# Altium integrated library Altium_Coil_Inductor.IntLib: 107 symbols (part 2 of 3)
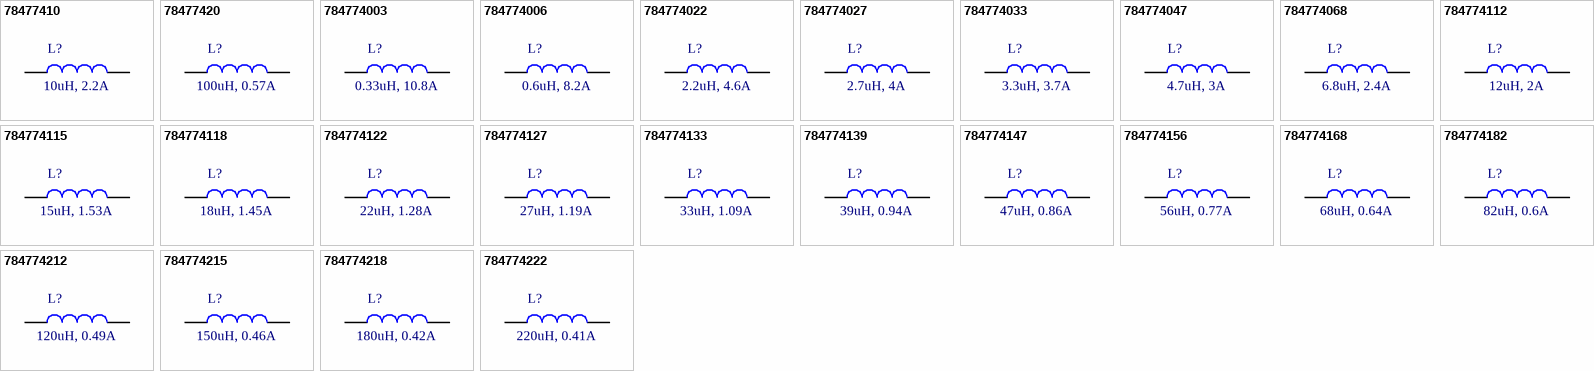
[diagram p6: symbols 78477410 to 784774222]

## 784774112
designator L?, comment 12uH, 2A
WE-PD2A SMT Power Inductor, size 5848, 12uH, 2A; Manufacturer Part Number: 784774112; Manufacturer: Wurth Elektronik; DC Resistance max.: 0.11Ohm; Saturation Current: 1.94A; Self Resonant Frequency: 24MHz; DC Resistance typ.: 0.082Ohm; Rated Voltage: 80VDC; ComponentLink1Description: Datasheet; ComponentLink1URL: https://www.we-online.com/catalog/datasheet/784774156.pdf; Published Date: May 2020; Rated Current: 2A; Inductance: 12uH; Operating Temperature: -40 to +125degC; Packaging: Tape and Reel; Size: 5848; Supplier 2 URL: https://www.digikey.com/en/products/detail/w%C3%BCrth-elektronik/784774112/5168866?s=N4IgTCBcDaIOwA4Asc5IIzogXQL5A; Supplier 1 URL: https://www.mouser.vn/ProductDetail/Wurth-Elektronik/784774112?qs=sBf%2Fb4nBSlcatMhetvXIaQ%3D%3D; Supplier 3 URL: N/A; Value: 12uH, 2A; LCSC Part #: N/A; Mount: SMD/SMT; Supplier 1: Mouser; Supplier 1 Part Number: 710-784774112; Supplier 2: Digi-Key; Supplier 2 Part Number: 732-6831-2-ND; Supplier 3: thegioiic; Supplier 3 Part Number: N/A
footprint WE-PD2A_5848
pins: 1, 2

## 784774115
designator L?, comment 15uH, 1.53A
WE-PD2A SMT Power Inductor, size 5848, 15uH, 1.53A; Manufacturer Part Number: 784774115; Manufacturer: Wurth Elektronik; DC Resistance max.: 0.14Ohm; Saturation Current: 1.9A; Self Resonant Frequency: 20MHz; DC Resistance typ.: 0.089Ohm; Rated Voltage: 80VDC; ComponentLink1Description: Datasheet; ComponentLink1URL: https://www.we-online.com/catalog/datasheet/784774156.pdf; Published Date: May 2020; Rated Current: 1.53A; Inductance: 15uH; Operating Temperature: -40 to +125degC; Packaging: Tape and Reel; Size: 5848; Supplier 2 URL: https://www.digikey.com/en/products/detail/w%C3%BCrth-elektronik/784774115/5168867?s=N4IgTCBcDaIOwA4Asc5IIzoKwgLoF8g; Supplier 1 URL: https://www.mouser.vn/ProductDetail/Wurth-Elektronik/784774115?qs=sBf%2Fb4nBSleoo7TtqR8SIg%3D%3D; Supplier 3 URL: https://www.thegioiic.com/cuon-cam-dan-smd-cd53-5852-150-15uh-1-7a; Value: 15uH, 1.53A; LCSC Part #: N/A; Mount: SMD/SMT; Supplier 1: Mouser; Supplier 1 Part Number: 710-784774115; Supplier 2: Digi-Key; Supplier 2 Part Number: 732-6832-2-ND; Supplier 3: thegioiic; Supplier 3 Part Number: N/A
footprint WE-PD2A_5848
pins: 1, 2

## 784774118
designator L?, comment 18uH, 1.45A
WE-PD2A SMT Power Inductor, size 5848, 18uH, 1.45A; Manufacturer Part Number: 784774118; Manufacturer: Wurth Elektronik; DC Resistance max.: 0.15Ohm; Saturation Current: 1.69A; Self Resonant Frequency: 19MHz; DC Resistance typ.: 0.104Ohm; Rated Voltage: 80VDC; ComponentLink1Description: Datasheet; ComponentLink1URL: https://www.we-online.com/catalog/datasheet/784774156.pdf; Published Date: May 2020; Rated Current: 1.45A; Inductance: 18uH; Operating Temperature: -40 to +125degC; Packaging: Tape and Reel; Size: 5848; Supplier 2 URL: https://www.digikey.com/en/products/detail/w%C3%BCrth-elektronik/784774118/5168868?s=N4IgTCBcDaIOwA4Asc5IIzoSAugXyA; Supplier 1 URL: https://www.mouser.vn/ProductDetail/Wurth-Elektronik/784774118?qs=sBf%2Fb4nBSldyi82E%2Fy0cEQ%3D%3D; Supplier 3 URL: https://www.thegioiic.com/cuon-cam-dan-smd-cd53-5852-180-18uh-1-6a; Value: 18uH, 1.45A; LCSC Part #: N/A; Mount: SMD/SMT; Supplier 1: Mouser; Supplier 1 Part Number: 710-784774118; Supplier 2: Digi-Key; Supplier 2 Part Number: 732-6833-2-ND; Supplier 3: thegioiic; Supplier 3 Part Number: N/A
footprint WE-PD2A_5848
pins: 1, 2

## 784774122
designator L?, comment 22uH, 1.28A
WE-PD2A SMT Power Inductor, size 5848, 22uH, 1.28A; Manufacturer Part Number: 784774122; Manufacturer: Wurth Elektronik; DC Resistance max.: 0.18Ohm; Saturation Current: 1.53A; Self Resonant Frequency: 16MHz; DC Resistance typ.: 0.109Ohm; Rated Voltage: 80VDC; ComponentLink1Description: Datasheet; ComponentLink1URL: https://www.we-online.com/catalog/datasheet/784774156.pdf; Published Date: May 2020; Rated Current: 1.28A; Inductance: 22uH; Operating Temperature: -40 to +125degC; Packaging: Tape and Reel; Size: 5848; Supplier 2 URL: https://www.digikey.com/en/products/detail/w%C3%BCrth-elektronik/784774122/5168869?s=N4IgTCBcDaIOwA4Asc5IIxggXQL5A; Supplier 1 URL: https://www.mouser.vn/ProductDetail/Wurth-Elektronik/784774122?qs=sBf%2Fb4nBSlfVM2OiWUTSBg%3D%3D; Supplier 3 URL: https://www.thegioiic.com/cuon-cam-dan-smd-cd53-5852-220-22uh-1-5a; Value: 22uH, 1.28A; LCSC Part #: N/A; Mount: SMD/SMT; Supplier 1: Mouser; Supplier 1 Part Number: 710-784774122; Supplier 2: Digi-Key; Supplier 2 Part Number: 732-6834-2-ND; Supplier 3: thegioiic; Supplier 3 Part Number: N/A
footprint WE-PD2A_5848
pins: 1, 2

## 784774127
designator L?, comment 27uH, 1.19A
WE-PD2A SMT Power Inductor, size 5848, 27uH, 1.19A; Manufacturer Part Number: 784774127; Manufacturer: Wurth Elektronik; DC Resistance max.: 0.2Ohm; Saturation Current: 1.4A; Self Resonant Frequency: 15MHz; DC Resistance typ.: 0.133Ohm; Rated Voltage: 80VDC; ComponentLink1Description: Datasheet; ComponentLink1URL: https://www.we-online.com/catalog/datasheet/784774156.pdf; Published Date: May 2020; Rated Current: 1.19A; Inductance: 27uH; Operating Temperature: -40 to +125degC; Packaging: Tape and Reel; Size: 5848; Supplier 2 URL: https://www.digikey.com/en/products/detail/w%C3%BCrth-elektronik/784774127/5168870?s=N4IgTCBcDaIOwA4Asc5IIxjiAugXyA; Supplier 1 URL: https://www.mouser.vn/ProductDetail/Wurth-Elektronik/784774127?qs=sBf%2Fb4nBSldrlnc5m4le1w%3D%3D; Supplier 3 URL: https://www.thegioiic.com/cuon-cam-dan-smd-cd53-5852-270-27uh-1-4a; Value: 27uH, 1.19A; LCSC Part #: N/A; Mount: SMD/SMT; Supplier 1: Mouser; Supplier 1 Part Number: 710-784774127; Supplier 2: Digi-Key; Supplier 2 Part Number: 732-6835-2-ND; Supplier 3: thegioiic; Supplier 3 Part Number: N/A
footprint WE-PD2A_5848
pins: 1, 2

## 784774133
designator L?, comment 33uH, 1.09A
WE-PD2A SMT Power Inductor, size 5848, 33uH, 1.09A; Manufacturer Part Number: 784774133; Manufacturer: Wurth Elektronik; DC Resistance max.: 0.23Ohm; Saturation Current: 1.17A; Self Resonant Frequency: 14MHz; DC Resistance typ.: 0.15Ohm; Rated Voltage: 80VDC; ComponentLink1Description: Datasheet; ComponentLink1URL: https://www.we-online.com/catalog/datasheet/784774156.pdf; Published Date: May 2020; Rated Current: 1.09A; Inductance: 33uH; Operating Temperature: -40 to +125degC; Packaging: Tape and Reel; Size: 5848; Supplier 2 URL: https://www.digikey.com/en/products/detail/w%C3%BCrth-elektronik/784774133/5168871?s=N4IgTCBcDaIOwA4Asc5IIwGZMgLoF8g; Supplier 1 URL: https://www.mouser.vn/ProductDetail/Wurth-Elektronik/784774133?qs=sBf%2Fb4nBSlcKSvlJ1UQYww%3D%3D; Supplier 3 URL: https://www.thegioiic.com/cuon-cam-dan-smd-cd53-5852-330-33uh-1-1a; Value: 33uH, 1.09A; LCSC Part #: N/A; Mount: SMD/SMT; Supplier 1: Mouser; Supplier 1 Part Number: 710-784774133; Supplier 2: Digi-Key; Supplier 2 Part Number: 732-6836-2-ND; Supplier 3: thegioiic; Supplier 3 Part Number: N/A
footprint WE-PD2A_5848
pins: 1, 2

## 784774139
designator L?, comment 39uH, 0.94A
WE-PD2A SMT Power Inductor, size 5848, 39uH, 0.94A; Manufacturer Part Number: 784774139; Manufacturer: Wurth Elektronik; DC Resistance max.: 0.32Ohm; Saturation Current: 1.1A; Self Resonant Frequency: 12MHz; DC Resistance typ.: 0.215Ohm; Rated Voltage: 80VDC; ComponentLink1Description: Datasheet; ComponentLink1URL: https://www.we-online.com/catalog/datasheet/784774156.pdf; Published Date: May 2020; Rated Current: 0.94A; Inductance: 39uH; Operating Temperature: -40 to +125degC; Packaging: Tape and Reel; Size: 5848; Supplier 2 URL: https://www.digikey.com/en/products/detail/w%C3%BCrth-elektronik/784774139/5168872?s=N4IgTCBcDaIOwA4Asc5IIwGYCcIC6AvkA; Supplier 1 URL: https://www.mouser.vn/ProductDetail/Wurth-Elektronik/784774139?qs=sBf%2Fb4nBSlf29NmVSXGfqA%3D%3D; Supplier 3 URL: https://www.thegioiic.com/cuon-cam-dan-smd-cd53-5852-390-39uh-1a; Value: 39uH, 0.94A; LCSC Part #: N/A; Mount: SMD/SMT; Supplier 1: Mouser; Supplier 1 Part Number: 710-784774139; Supplier 2: Digi-Key; Supplier 2 Part Number: 732-6837-2-ND; Supplier 3: thegioiic; Supplier 3 Part Number: N/A
footprint WE-PD2A_5848
pins: 1, 2

## 784774147
designator L?, comment 47uH, 0.86A
WE-PD2A SMT Power Inductor, size 5848, 47uH, 0.86A; Manufacturer Part Number: 784774147; Manufacturer: Wurth Elektronik; DC Resistance max.: 0.37Ohm; Saturation Current: 1A; Self Resonant Frequency: 10MHz; DC Resistance typ.: 0.26Ohm; Rated Voltage: 80VDC; ComponentLink1Description: Datasheet; ComponentLink1URL: https://www.we-online.com/catalog/datasheet/784774156.pdf; Published Date: May 2020; Rated Current: 0.86A; Inductance: 47uH; Operating Temperature: -40 to +125degC; Packaging: Tape and Reel; Size: 5848; Supplier 2 URL: https://www.digikey.com/en/products/detail/w%C3%BCrth-elektronik/784774147/5168873?s=N4IgTCBcDaIOwA4Asc5IIwpAXQL5A; Supplier 1 URL: https://www.mouser.vn/ProductDetail/Wurth-Elektronik/784774147?qs=sBf%2Fb4nBSlctzbnKAYzY9w%3D%3D; Supplier 3 URL: N/A; Value: 47uH, 0.86A; LCSC Part #: N/A; Mount: SMD/SMT; Supplier 1: Mouser; Supplier 1 Part Number: 710-784774147; Supplier 2: Digi-Key; Supplier 2 Part Number: 732-6838-2-ND; Supplier 3: thegioiic; Supplier 3 Part Number: N/A
footprint WE-PD2A_5848
pins: 1, 2

## 784774156
designator L?, comment 56uH, 0.77A
WE-PD2A SMT Power Inductor, size 5848, 56uH, 0.77A; Manufacturer Part Number: 784774156; Manufacturer: Wurth Elektronik; DC Resistance max.: 0.42Ohm; Saturation Current: 0.9A; Self Resonant Frequency: 10MHz; DC Resistance typ.: 0.298Ohm; Rated Voltage: 80VDC; ComponentLink1Description: Datasheet; ComponentLink1URL: https://www.we-online.com/catalog/datasheet/784774156.pdf; Published Date: May 2020; Rated Current: 0.77A; Inductance: 56uH; Operating Temperature: -40 to +125degC; Packaging: Tape and Reel; Size: 5848; Supplier 2 URL: https://www.digikey.com/en/products/detail/w%C3%BCrth-elektronik/784774156/5168874?s=N4IgTCBcDaIOwA4Asc5IIwFYBsIC6AvkA; Supplier 1 URL: https://www.mouser.vn/ProductDetail/Wurth-Elektronik/784774156?qs=sBf%2Fb4nBSlc%2FUe5VBOi2yA%3D%3D; Supplier 3 URL: N/A; Value: 56uH, 0.77A; LCSC Part #: N/A; Mount: SMD/SMT; Supplier 1: Mouser; Supplier 1 Part Number: 710-784774156; Supplier 2: Digi-Key; Supplier 2 Part Number: 732-6839-2-ND; Supplier 3: thegioiic; Supplier 3 Part Number: N/A
footprint WE-PD2A_5848
pins: 1, 2

## 784774168
designator L?, comment 68uH, 0.64A
WE-PD2A SMT Power Inductor, size 5848, 68uH, 0.64A; Manufacturer Part Number: 784774168; Manufacturer: Wurth Elektronik; DC Resistance max.: 0.46Ohm; Saturation Current: 0.86A; Self Resonant Frequency: 10MHz; DC Resistance typ.: 0.313Ohm; Rated Voltage: 80VDC; ComponentLink1Description: Datasheet; ComponentLink1URL: https://www.we-online.com/catalog/datasheet/784774156.pdf; Published Date: May 2020; Rated Current: 0.64A; Inductance: 68uH; Operating Temperature: -40 to +125degC; Packaging: Tape and Reel; Size: 5848; Supplier 2 URL: https://www.digikey.com/en/products/detail/w%C3%BCrth-elektronik/784774168/5168875?s=N4IgTCBcDaIOwA4Asc5IIwDYEgLoF8g; Supplier 1 URL: https://www.mouser.vn/ProductDetail/Wurth-Elektronik/784774168?qs=sBf%2Fb4nBSld9uN%2F8XgaVFw%3D%3D; Supplier 3 URL: N/A; Value: 68uH, 0.64A; LCSC Part #: N/A; Mount: SMD/SMT; Supplier 1: Mouser; Supplier 1 Part Number: 710-784774168; Supplier 2: Digi-Key; Supplier 2 Part Number: 732-6840-2-ND; Supplier 3: thegioiic; Supplier 3 Part Number: N/A
footprint WE-PD2A_5848
pins: 1, 2

## 784774182
designator L?, comment 82uH, 0.6A
WE-PD2A SMT Power Inductor, size 5848, 82uH, 0.6A; Manufacturer Part Number: 784774182; Manufacturer: Wurth Elektronik; DC Resistance max.: 0.6Ohm; Saturation Current: 0.72A; Self Resonant Frequency: 8MHz; DC Resistance typ.: 0.475Ohm; Rated Voltage: 80VDC; ComponentLink1Description: Datasheet; ComponentLink1URL: https://www.we-online.com/catalog/datasheet/784774156.pdf; Published Date: May 2020; Rated Current: 0.6A; Inductance: 82uH; Operating Temperature: -40 to +125degC; Packaging: Tape and Reel; Size: 5848; Supplier 2 URL: https://www.digikey.com/en/products/detail/w%C3%BCrth-elektronik/784774182/5168876?s=N4IgTCBcDaIOwA4Asc5IIwIgXQL5A; Supplier 1 URL: https://www.mouser.vn/ProductDetail/Wurth-Elektronik/784774182?qs=sBf%2Fb4nBSlcez0lEaidETg%3D%3D; Supplier 3 URL: N/A; Value: 82uH, 0.6A; LCSC Part #: N/A; Mount: SMD/SMT; Supplier 1: Mouser; Supplier 1 Part Number: 710-784774182; Supplier 2: Digi-Key; Supplier 2 Part Number: 732-6841-2-ND; Supplier 3: thegioiic; Supplier 3 Part Number: N/A
footprint WE-PD2A_5848
pins: 1, 2

## 784774212
designator L?, comment 120uH, 0.49A
WE-PD2A SMT Power Inductor, size 5848, 120uH, 0.49A; Manufacturer Part Number: 784774212; Manufacturer: Wurth Elektronik; DC Resistance max.: 0.93Ohm; Saturation Current: 0.63A; Self Resonant Frequency: 7MHz; DC Resistance typ.: 0.66Ohm; Rated Voltage: 80VDC; ComponentLink1Description: Datasheet; ComponentLink1URL: https://www.we-online.com/catalog/datasheet/784774156.pdf; Published Date: May 2020; Rated Current: 0.49A; Inductance: 120uH; Operating Temperature: -40 to +125degC; Packaging: Tape and Reel; Size: 5848; Supplier 2 URL: https://www.digikey.com/en/products/detail/w%C3%BCrth-elektronik/784774212/5168877?s=N4IgTCBcDaIOwA4Asc5LARggXQL5A; Supplier 1 URL: https://www.mouser.vn/ProductDetail/Wurth-Elektronik/784774212?qs=sBf%2Fb4nBSlf8mVbHwLAxxA%3D%3D; Supplier 3 URL: N/A; Value: 120uH, 0.49A; LCSC Part #: N/A; Mount: SMD/SMT; Supplier 1: Mouser; Supplier 1 Part Number: 710-784774212; Supplier 2: Digi-Key; Supplier 2 Part Number: 732-6843-2-ND; Supplier 3: thegioiic; Supplier 3 Part Number: N/A
footprint WE-PD2A_5848
pins: 1, 2

## 784774215
designator L?, comment 150uH, 0.46A
WE-PD2A SMT Power Inductor, size 5848, 150uH, 0.46A; Manufacturer Part Number: 784774215; Manufacturer: Wurth Elektronik; DC Resistance max.: 1.1Ohm; Saturation Current: 0.54A; Self Resonant Frequency: 6MHz; DC Resistance typ.: 0.72Ohm; Rated Voltage: 80VDC; ComponentLink1Description: Datasheet; ComponentLink1URL: https://www.we-online.com/catalog/datasheet/784774156.pdf; Published Date: May 2020; Rated Current: 0.46A; Inductance: 150uH; Operating Temperature: -40 to +125degC; Packaging: Tape and Reel; Size: 5848; Supplier 2 URL: https://www.digikey.com/en/products/detail/w%C3%BCrth-elektronik/784774215/5168878?s=N4IgTCBcDaIOwA4Asc5LARgKwgLoF8g; Supplier 1 URL: https://www.mouser.vn/ProductDetail/Wurth-Elektronik/784774215?qs=sBf%2Fb4nBSldOI6iEaAoXhQ%3D%3D; Supplier 3 URL: N/A; Value: 150uH, 0.46A; LCSC Part #: N/A; Mount: SMD/SMT; Supplier 1: Mouser; Supplier 1 Part Number: 710-784774215; Supplier 2: Digi-Key; Supplier 2 Part Number: 732-6844-2-ND; Supplier 3: thegioiic; Supplier 3 Part Number: N/A
footprint WE-PD2A_5848
pins: 1, 2

## 784774218
designator L?, comment 180uH, 0.42A
WE-PD2A SMT Power Inductor, size 5848, 180uH, 0.42A; Manufacturer Part Number: 784774218; Manufacturer: Wurth Elektronik; DC Resistance max.: 1.38Ohm; Saturation Current: 0.5A; Self Resonant Frequency: 6MHz; DC Resistance typ.: 0.85Ohm; Rated Voltage: 80VDC; ComponentLink1Description: Datasheet; ComponentLink1URL: https://www.we-online.com/catalog/datasheet/784774156.pdf; Published Date: May 2020; Rated Current: 0.42A; Inductance: 180uH; Operating Temperature: -40 to +125degC; Packaging: Tape and Reel; Size: 5848; Supplier 2 URL: https://www.digikey.com/en/products/detail/w%C3%BCrth-elektronik/784774218/5168879?s=N4IgTCBcDaIOwA4Asc5LARgSAugXyA; Supplier 1 URL: https://www.mouser.vn/ProductDetail/Wurth-Elektronik/784774218?qs=sBf%2Fb4nBSle8%2F%2Fncjy8uHQ%3D%3D; Supplier 3 URL: N/A; Value: 180uH, 0.42A; LCSC Part #: N/A; Mount: SMD/SMT; Supplier 1: Mouser; Supplier 1 Part Number: 710-784774218; Supplier 2: Digi-Key; Supplier 2 Part Number: 732-6845-2-ND; Supplier 3: thegioiic; Supplier 3 Part Number: N/A
footprint WE-PD2A_5848
pins: 1, 2

## 784774222
designator L?, comment 220uH, 0.41A
WE-PD2A SMT Power Inductor, size 5848, 220uH, 0.41A; Manufacturer Part Number: 784774222; Manufacturer: Wurth Elektronik; DC Resistance max.: 1.57Ohm; Saturation Current: 0.47A; Self Resonant Frequency: 5MHz; DC Resistance typ.: 0.945Ohm; Rated Voltage: 80VDC; ComponentLink1Description: Datasheet; ComponentLink1URL: https://www.we-online.com/catalog/datasheet/784774156.pdf; Published Date: May 2020; Rated Current: 0.41A; Inductance: 220uH; Operating Temperature: -40 to +125degC; Packaging: Tape and Reel; Size: 5848; Supplier 2 URL: https://www.digikey.com/en/products/detail/w%C3%BCrth-elektronik/784774222/5168880?s=N4IgTCBcDaIOwA4Asc5LBkBdAvkA; Supplier 1 URL: https://www.mouser.vn/ProductDetail/Wurth-Elektronik/784774222?qs=sBf%2Fb4nBSlf2yvEr8fQTJA%3D%3D; Supplier 3 URL: N/A; Value: 220uH, 0.41A; LCSC Part #: N/A; Mount: SMD/SMT; Supplier 1: Mouser; Supplier 1 Part Number: 710-784774222; Supplier 2: Digi-Key; Supplier 2 Part Number: 732-6846-2-ND; Supplier 3: thegioiic; Supplier 3 Part Number: N/A
footprint WE-PD2A_5848
pins: 1, 2


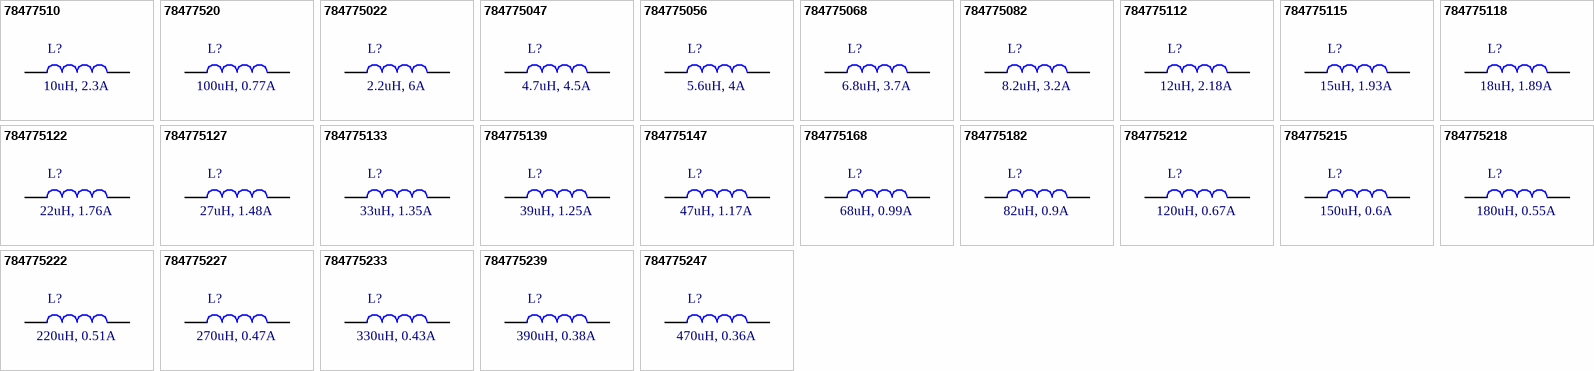
[diagram p3: symbols 78477510 to 784775247]

## 78477510
designator L?, comment 10uH, 2.3A
WE-PD2A SMT Power Inductor, size 7850, 10uH, 2.3A; Manufacturer Part Number: 78477510; Manufacturer: Wurth Elektronik; DC Resistance max.: 0.07Ohm; Saturation Current: 2.95A; Self Resonant Frequency: 23MHz; DC Resistance typ.: 0.04Ohm; Rated Voltage: 80VDC; ComponentLink1Description: Datasheet; ComponentLink1URL: https://www.we-online.com/catalog/datasheet/78477510.pdf; Published Date: May 2020; Rated Current: 2.3A; Inductance: 10uH; Operating Temperature: -40 to +125degC; Packaging: Tape and Reel; Size: 7850; Supplier 2 URL: https://www.digikey.com/en/products/detail/w%C3%BCrth-elektronik/78477510/5168781?s=N4IgTCBcDaIOwA4Asc4FYCMAGEBdAvkA; Supplier 1 SN: 710-78477510; Supplier 1 URL: https://www.mouser.vn/ProductDetail/Wurth-Elektronik/78477510?qs=sBf%2Fb4nBSlc%252BwaRN6TiqcA%3D%3D; Supplier 1 URL: N/A; Value: 10uH, 2.3A; Supplier 3 URL: N/A; LCSC Part #: N/A; Mount: SMD/SMT; Supplier 1: Mouser; Supplier 1 Part Number: N/A; Supplier 2: Digi-Key; Supplier 2 Part Number: 732-6854-2-ND; Supplier 3: thegioiic; Supplier 3 Part Number: N/A
footprint WE-PD2A_7850
pins: 1, 2

## 78477520
designator L?, comment 100uH, 0.77A
WE-PD2A SMT Power Inductor, size 7850, 100uH, 0.77A; Manufacturer Part Number: 78477520; Manufacturer: Wurth Elektronik; DC Resistance max.: 0.43Ohm; Saturation Current: 0.86A; Self Resonant Frequency: 7MHz; DC Resistance typ.: 0.281Ohm; Rated Voltage: 80VDC; ComponentLink1Description: Datasheet; ComponentLink1URL: https://www.we-online.com/catalog/datasheet/78477520.pdf; Published Date: May 2020; Rated Current: 0.77A; Inductance: 100uH; Operating Temperature: -40 to +125degC; Packaging: Tape and Reel; Size: 7850; Supplier 2 URL: https://www.digikey.com/en/products/detail/w%C3%BCrth-elektronik/78477520/5168782?s=N4IgTCBcDaIOwA4Asc4FYwAYQF0C%2BQA; Supplier 1 SN: 710-78477520; Supplier 1 URL: https://www.mouser.vn/ProductDetail/Wurth-Elektronik/78477520?qs=sBf%2Fb4nBSletLVOXzG8NgA%3D%3D; Supplier 1 URL: N/A; Value: 100uH, 0.77A; Supplier 3 URL: N/A; LCSC Part #: N/A; Mount: SMD/SMT; Supplier 1: Mouser; Supplier 1 Part Number: N/A; Supplier 2: Digi-Key; Supplier 2 Part Number: 732-6865-2-ND; Supplier 3: thegioiic; Supplier 3 Part Number: N/A
footprint WE-PD2A_7850
pins: 1, 2

## 784775022
designator L?, comment 2.2uH, 6A
WE-PD2A SMT Power Inductor, size 7850, 2.2uH, 6A; Manufacturer Part Number: 784775022; Manufacturer: Wurth Elektronik; DC Resistance max.: 0.015Ohm; Self Resonant Frequency: 70MHz; DC Resistance typ.: 0.008Ohm; Rated Voltage: 80VDC; ComponentLink1Description: Datasheet; ComponentLink1URL: https://www.we-online.com/catalog/datasheet/784775022.pdf; Published Date: May 2020; Rated Current: 6A; Inductance: 2.2uH; Operating Temperature: -40 to +125degC; Packaging: Tape and Reel; Saturation Current: 6A; Size: 7850; Supplier 2 URL: https://www.digikey.com/en/products/detail/w%C3%BCrth-elektronik/784775022/5168882?s=N4IgTCBcDaIOwA4Asc4FYAMYIF0C%2BQA; Supplier 1 SN: 710-784775022; Supplier 1 URL: https://www.mouser.vn/ProductDetail/Wurth-Elektronik/784775022?qs=sBf%2Fb4nBSldWwdb%252BPXLbsg%3D%3D; Supplier 1 URL: N/A; Value: 2.2uH, 6A; Supplier 3 URL: N/A; LCSC Part #: N/A; Mount: SMD/SMT; Supplier 1: Mouser; Supplier 1 Part Number: N/A; Supplier 2: Digi-Key; Supplier 2 Part Number: 732-6848-2-ND; Supplier 3: thegioiic; Supplier 3 Part Number: N/A
footprint WE-PD2A_7850
pins: 1, 2

## 784775047
designator L?, comment 4.7uH, 4.5A
WE-PD2A SMT Power Inductor, size 7850, 4.7uH, 4.5A; Manufacturer Part Number: 784775047; Manufacturer: Wurth Elektronik; DC Resistance max.: 0.019Ohm; Self Resonant Frequency: 47MHz; DC Resistance typ.: 0.016Ohm; Rated Voltage: 80VDC; ComponentLink1Description: Datasheet; ComponentLink1URL: https://www.we-online.com/catalog/datasheet/784775047.pdf; Published Date: May 2020; Rated Current: 4.5A; Inductance: 4.7uH; Operating Temperature: -40 to +125degC; Packaging: Tape and Reel; Saturation Current: 4.5A; Size: 7850; Supplier 2 URL: https://www.digikey.com/en/products/detail/w%C3%BCrth-elektronik/784775047/5168884?s=N4IgTCBcDaIOwA4Asc4FYAMKQF0C%2BQA; Supplier 1 SN: 710-784775047; Supplier 1 URL: https://www.mouser.vn/ProductDetail/Wurth-Elektronik/784775047?qs=sBf%2Fb4nBSlf4xHj%2Fl3swig%3D%3D; Supplier 1 URL: https://www.thegioiic.com/cuon-cam-dan-smd-cd75-7855-4r7-4-7uh-2-9a; Value: 4.7uH, 4.5A; Supplier 3 URL: N/A; LCSC Part #: N/A; Mount: SMD/SMT; Supplier 1: Mouser; Supplier 1 Part Number: N/A; Supplier 2: Digi-Key; Supplier 2 Part Number: 732-6850-2-ND; Supplier 3: thegioiic; Supplier 3 Part Number: N/A
footprint WE-PD2A_7850
pins: 1, 2

## 784775056
designator L?, comment 5.6uH, 4A
WE-PD2A SMT Power Inductor, size 7850, 5.6uH, 4A; Manufacturer Part Number: 784775056; Manufacturer: Wurth Elektronik; DC Resistance max.: 0.022Ohm; Self Resonant Frequency: 34MHz; DC Resistance typ.: 0.018Ohm; Rated Voltage: 80VDC; ComponentLink1Description: Datasheet; ComponentLink1URL: https://www.we-online.com/catalog/datasheet/784775056.pdf; Published Date: May 2020; Rated Current: 4A; Inductance: 5.6uH; Operating Temperature: -40 to +125degC; Packaging: Tape and Reel; Saturation Current: 4A; Size: 7850; Supplier 2 URL: https://www.digikey.com/en/products/detail/w%C3%BCrth-elektronik/784775056/5168885?s=N4IgTCBcDaIOwA4Asc4FYAMaBsIC6AvkA; Supplier 1 SN: 710-784775056; Supplier 1 URL: https://www.mouser.vn/ProductDetail/Wurth-Elektronik/784775056?qs=sBf%2Fb4nBSlcjhWMBFsnY9w%3D%3D; Supplier 1 URL: N/A; Value: 5.6uH, 4A; Supplier 3 URL: N/A; LCSC Part #: N/A; Mount: SMD/SMT; Supplier 1: Mouser; Supplier 1 Part Number: N/A; Supplier 2: Digi-Key; Supplier 2 Part Number: 732-6851-2-ND; Supplier 3: thegioiic; Supplier 3 Part Number: N/A
footprint WE-PD2A_7850
pins: 1, 2

## 784775068
designator L?, comment 6.8uH, 3.7A
WE-PD2A SMT Power Inductor, size 7850, 6.8uH, 3.7A; Manufacturer Part Number: 784775068; Manufacturer: Wurth Elektronik; DC Resistance max.: 0.026Ohm; Saturation Current: 3.8A; Self Resonant Frequency: 30MHz; DC Resistance typ.: 0.022Ohm; Rated Voltage: 80VDC; ComponentLink1Description: Datasheet; ComponentLink1URL: https://www.we-online.com/catalog/datasheet/784775068.pdf; Published Date: May 2020; Rated Current: 3.7A; Inductance: 6.8uH; Operating Temperature: -40 to +125degC; Packaging: Tape and Reel; Size: 7850; Supplier 2 URL: https://www.digikey.com/en/products/detail/w%C3%BCrth-elektronik/784775068/5168886?s=N4IgTCBcDaIOwA4Asc4FYAMA2BIC6AvkA; Supplier 1 SN: 710-784775068; Supplier 1 URL: https://www.mouser.vn/ProductDetail/Wurth-Elektronik/784775068?qs=sBf%2Fb4nBSlf8S8PaXh%252BpXg%3D%3D; Supplier 1 URL: https://www.thegioiic.com/cuon-cam-dan-smd-cd75-7855-6r8-6-8uh-2-7a; Value: 6.8uH, 3.7A; Supplier 3 URL: N/A; LCSC Part #: N/A; Mount: SMD/SMT; Supplier 1: Mouser; Supplier 1 Part Number: N/A; Supplier 2: Digi-Key; Supplier 2 Part Number: 732-6852-2-ND; Supplier 3: thegioiic; Supplier 3 Part Number: N/A
footprint WE-PD2A_7850
pins: 1, 2

## 784775082
designator L?, comment 8.2uH, 3.2A
WE-PD2A SMT Power Inductor, size 7850, 8.2uH, 3.2A; Manufacturer Part Number: 784775082; Manufacturer: Wurth Elektronik; DC Resistance max.: 0.029Ohm; Self Resonant Frequency: 33MHz; DC Resistance typ.: 0.024Ohm; Rated Voltage: 80VDC; ComponentLink1Description: Datasheet; ComponentLink1URL: https://www.we-online.com/catalog/datasheet/784775082.pdf; Published Date: May 2020; Rated Current: 3.2A; Inductance: 8.2uH; Operating Temperature: -40 to +125degC; Packaging: Tape and Reel; Saturation Current: 3.2A; Size: 7850; Supplier 2 URL: https://www.digikey.com/en/products/detail/w%C3%BCrth-elektronik/784775082/5168887?s=N4IgTCBcDaIOwA4Asc4FYAMCIF0C%2BQA; Supplier 1 SN: 710-784775082; Supplier 1 URL: https://www.mouser.vn/ProductDetail/Wurth-Elektronik/784775082?qs=sBf%2Fb4nBSlcWo3KIPfi%252BzQ%3D%3D; Supplier 1 URL: N/A; Value: 8.2uH, 3.2A; Supplier 3 URL: N/A; LCSC Part #: N/A; Mount: SMD/SMT; Supplier 1: Mouser; Supplier 1 Part Number: N/A; Supplier 2: Digi-Key; Supplier 2 Part Number: 732-6853-2-ND; Supplier 3: thegioiic; Supplier 3 Part Number: N/A
footprint WE-PD2A_7850
pins: 1, 2

## 784775112
designator L?, comment 12uH, 2.18A
WE-PD2A SMT Power Inductor, size 7850, 12uH, 2.18A; Manufacturer Part Number: 784775112; Manufacturer: Wurth Elektronik; DC Resistance max.: 0.08Ohm; Saturation Current: 2.23A; Self Resonant Frequency: 20MHz; DC Resistance typ.: 0.042Ohm; Rated Voltage: 80VDC; ComponentLink1Description: Datasheet; ComponentLink1URL: https://www.we-online.com/catalog/datasheet/784775112.pdf; Published Date: May 2020; Rated Current: 2.18A; Inductance: 12uH; Operating Temperature: -40 to +125degC; Packaging: Tape and Reel; Size: 7850; Supplier 2 URL: https://www.digikey.com/en/products/detail/w%C3%BCrth-elektronik/784775112/5168888?s=N4IgTCBcDaIOwA4Asc4FYCMGIF0C%2BQA; Supplier 1 SN: 710-784775112; Supplier 1 URL: https://www.mouser.vn/ProductDetail/Wurth-Elektronik/784775112?qs=sBf%2Fb4nBSldbAuNzI%252BywLA%3D%3D; Supplier 1 URL: https://www.thegioiic.com/cuon-cam-dan-smd-cd75-7855-120-12uh-2a; Value: 12uH, 2.18A; Supplier 3 URL: N/A; LCSC Part #: N/A; Mount: SMD/SMT; Supplier 1: Mouser; Supplier 1 Part Number: N/A; Supplier 2: Digi-Key; Supplier 2 Part Number: 732-6855-2-ND; Supplier 3: thegioiic; Supplier 3 Part Number: N/A
footprint WE-PD2A_7850
pins: 1, 2

## 784775115
designator L?, comment 15uH, 1.93A
WE-PD2A SMT Power Inductor, size 7850, 15uH, 1.93A; Manufacturer Part Number: 784775115; Manufacturer: Wurth Elektronik; DC Resistance max.: 0.09Ohm; Saturation Current: 2.2A; Self Resonant Frequency: 18MHz; DC Resistance typ.: 0.044Ohm; Rated Voltage: 80VDC; ComponentLink1Description: Datasheet; ComponentLink1URL: https://www.we-online.com/catalog/datasheet/784775115.pdf; Published Date: May 2020; Rated Current: 1.93A; Inductance: 15uH; Operating Temperature: -40 to +125degC; Packaging: Tape and Reel; Size: 7850; Supplier 2 URL: https://www.digikey.com/en/products/detail/w%C3%BCrth-elektronik/784775115/5168889?s=N4IgTCBcDaIOwA4Asc4FYCMG0gLoF8g; Supplier 1 SN: 710-784775115; Supplier 1 URL: https://www.mouser.vn/ProductDetail/Wurth-Elektronik/784775115?qs=sBf%2Fb4nBSldPqUomNOej8Q%3D%3D; Supplier 1 URL: https://www.thegioiic.com/cuon-cam-dan-smd-cd75-7855-150-15uh-1-8a; Value: 15uH, 1.93A; Supplier 3 URL: N/A; LCSC Part #: N/A; Mount: SMD/SMT; Supplier 1: Mouser; Supplier 1 Part Number: N/A; Supplier 2: Digi-Key; Supplier 2 Part Number: 732-6856-2-ND; Supplier 3: thegioiic; Supplier 3 Part Number: N/A
footprint WE-PD2A_7850
pins: 1, 2

## 784775118
designator L?, comment 18uH, 1.89A
WE-PD2A SMT Power Inductor, size 7850, 18uH, 1.89A; Manufacturer Part Number: 784775118; Manufacturer: Wurth Elektronik; DC Resistance max.: 0.1Ohm; Saturation Current: 2.14A; Self Resonant Frequency: 17MHz; DC Resistance typ.: 0.053Ohm; Rated Voltage: 80VDC; ComponentLink1Description: Datasheet; ComponentLink1URL: https://www.we-online.com/catalog/datasheet/784775118.pdf; Published Date: May 2020; Rated Current: 1.89A; Inductance: 18uH; Operating Temperature: -40 to +125degC; Packaging: Tape and Reel; Size: 7850; Supplier 2 URL: https://www.digikey.com/en/products/detail/w%C3%BCrth-elektronik/784775118/5168890?s=N4IgTCBcDaIOwA4Asc4FYCMGEgLoF8g; Supplier 1 SN: 710-784775118; Supplier 1 URL: https://www.mouser.vn/ProductDetail/Wurth-Elektronik/784775118?qs=sBf%2Fb4nBSlcwZpsf1SQYRw%3D%3D; Supplier 1 URL: https://www.thegioiic.com/cuon-cam-dan-smd-cd75-7855-180-18uh-1-6a; Value: 18uH, 1.89A; Supplier 3 URL: N/A; LCSC Part #: N/A; Mount: SMD/SMT; Supplier 1: Mouser; Supplier 1 Part Number: N/A; Supplier 2: Digi-Key; Supplier 2 Part Number: 732-6857-2-ND; Supplier 3: thegioiic; Supplier 3 Part Number: N/A
footprint WE-PD2A_7850
pins: 1, 2

## 784775122
designator L?, comment 22uH, 1.76A
WE-PD2A SMT Power Inductor, size 7850, 22uH, 1.76A; Manufacturer Part Number: 784775122; Manufacturer: Wurth Elektronik; DC Resistance max.: 0.11Ohm; Saturation Current: 1.81A; Self Resonant Frequency: 15MHz; DC Resistance typ.: 0.065Ohm; Rated Voltage: 80VDC; ComponentLink1Description: Datasheet; ComponentLink1URL: https://www.we-online.com/catalog/datasheet/784775122.pdf; Published Date: May 2020; Rated Current: 1.76A; Inductance: 22uH; Operating Temperature: -40 to +125degC; Packaging: Tape and Reel; Size: 7850; Supplier 2 URL: https://www.digikey.com/en/products/detail/w%C3%BCrth-elektronik/784775122/5168891?s=N4IgTCBcDaIOwA4Asc4FYCMYIF0C%2BQA; Supplier 1 SN: 710-784775122; Supplier 1 URL: https://www.mouser.vn/ProductDetail/Wurth-Elektronik/784775122?qs=sBf%2Fb4nBSlfpr06WXnbQQg%3D%3D; Supplier 1 URL: https://www.thegioiic.com/cuon-cam-dan-smd-cd75-7855-180-18uh-1-6a; Value: 22uH, 1.76A; Supplier 3 URL: N/A; LCSC Part #: N/A; Mount: SMD/SMT; Supplier 1: Mouser; Supplier 1 Part Number: N/A; Supplier 2: Digi-Key; Supplier 2 Part Number: 732-6858-2-ND; Supplier 3: thegioiic; Supplier 3 Part Number: N/A
footprint WE-PD2A_7850 (SMD Power Inductor, body 7.8x7mm)
pins: 1, 2

## 784775127
designator L?, comment 27uH, 1.48A
WE-PD2A SMT Power Inductor, size 7850, 27uH, 1.48A; Manufacturer Part Number: 784775127; Manufacturer: Wurth Elektronik; DC Resistance max.: 0.12Ohm; Saturation Current: 1.62A; Self Resonant Frequency: 14MHz; DC Resistance typ.: 0.074Ohm; Rated Voltage: 80VDC; ComponentLink1Description: Datasheet; ComponentLink1URL: https://www.we-online.com/catalog/datasheet/784775127.pdf; Published Date: May 2020; Rated Current: 1.48A; Inductance: 27uH; Operating Temperature: -40 to +125degC; Packaging: Tape and Reel; Size: 7850; Supplier 2 URL: https://www.digikey.com/en/products/detail/w%C3%BCrth-elektronik/784775127/5168892?s=N4IgTCBcDaIOwA4Asc4FYCMY4gLoF8g; Supplier 1 SN: 710-784775127; Supplier 1 URL: https://www.mouser.vn/ProductDetail/Wurth-Elektronik/784775127?qs=sBf%2Fb4nBSldmITeO904MeA%3D%3D; Supplier 1 URL: https://www.thegioiic.com/cuon-cam-dan-smd-cd75-7855-270-27uh-1-3a; Value: 27uH, 1.48A; Supplier 3 URL: N/A; LCSC Part #: N/A; Mount: SMD/SMT; Supplier 1: Mouser; Supplier 1 Part Number: N/A; Supplier 2: Digi-Key; Supplier 2 Part Number: 732-6859-2-ND; Supplier 3: thegioiic; Supplier 3 Part Number: N/A
footprint WE-PD2A_7850
pins: 1, 2

## 784775133
designator L?, comment 33uH, 1.35A
WE-PD2A SMT Power Inductor, size 7850, 33uH, 1.35A; Manufacturer Part Number: 784775133; Manufacturer: Wurth Elektronik; DC Resistance max.: 0.13Ohm; Saturation Current: 1.47A; Self Resonant Frequency: 13MHz; DC Resistance typ.: 0.089Ohm; Rated Voltage: 80VDC; ComponentLink1Description: Datasheet; ComponentLink1URL: https://www.we-online.com/catalog/datasheet/784775133.pdf; Published Date: May 2020; Rated Current: 1.35A; Inductance: 33uH; Operating Temperature: -40 to +125degC; Packaging: Tape and Reel; Size: 7850; Supplier 2 URL: https://www.digikey.com/en/products/detail/w%C3%BCrth-elektronik/784775133/5168893?s=N4IgTCBcDaIOwA4Asc4FYCMBmLIC6AvkA; Supplier 1 SN: 710-784775133; Supplier 1 URL: https://www.mouser.vn/ProductDetail/Wurth-Elektronik/784775133?qs=sBf%2Fb4nBSldo7oeQ7NWZEA%3D%3D; Supplier 1 URL: https://www.thegioiic.com/cuon-cam-dan-smd-cd75-7855-330-33uh-1-2a; Value: 33uH, 1.35A; Supplier 3 URL: N/A; LCSC Part #: N/A; Mount: SMD/SMT; Supplier 1: Mouser; Supplier 1 Part Number: N/A; Supplier 2: Digi-Key; Supplier 2 Part Number: 732-6860-2-ND; Supplier 3: thegioiic; Supplier 3 Part Number: N/A
footprint WE-PD2A_7850
pins: 1, 2

## 784775139
designator L?, comment 39uH, 1.25A
WE-PD2A SMT Power Inductor, size 7850, 39uH, 1.25A; Manufacturer Part Number: 784775139; Manufacturer: Wurth Elektronik; DC Resistance max.: 0.16Ohm; Saturation Current: 1.33A; Self Resonant Frequency: 12MHz; DC Resistance typ.: 0.116Ohm; Rated Voltage: 80VDC; ComponentLink1Description: Datasheet; ComponentLink1URL: https://www.we-online.com/catalog/datasheet/784775139.pdf; Published Date: May 2020; Rated Current: 1.25A; Inductance: 39uH; Operating Temperature: -40 to +125degC; Packaging: Tape and Reel; Size: 7850; Supplier 2 URL: https://www.digikey.com/en/products/detail/w%C3%BCrth-elektronik/784775139/5168894?s=N4IgTCBcDaIOwA4Asc4FYCMBmAnCAugL5A; Supplier 1 SN: 710-784775139; Supplier 1 URL: https://www.mouser.vn/ProductDetail/Wurth-Elektronik/784775139?qs=sBf%2Fb4nBSldL%252BOUk7cGBpA%3D%3D; Supplier 1 URL: https://www.thegioiic.com/cuon-cam-dan-smd-cd75-7855-390-39uh-1-1a; Value: 39uH, 1.25A; Supplier 3 URL: N/A; LCSC Part #: N/A; Mount: SMD/SMT; Supplier 1: Mouser; Supplier 1 Part Number: N/A; Supplier 2: Digi-Key; Supplier 2 Part Number: 732-6861-2-ND; Supplier 3: thegioiic; Supplier 3 Part Number: N/A
footprint WE-PD2A_7850
pins: 1, 2

## 784775147
designator L?, comment 47uH, 1.17A
WE-PD2A SMT Power Inductor, size 7850, 47uH, 1.17A; Manufacturer Part Number: 784775147; Manufacturer: Wurth Elektronik; DC Resistance max.: 0.18Ohm; Saturation Current: 1.24A; Self Resonant Frequency: 10MHz; DC Resistance typ.: 0.134Ohm; Rated Voltage: 80VDC; ComponentLink1Description: Datasheet; ComponentLink1URL: https://www.we-online.com/catalog/datasheet/784775147.pdf; Published Date: May 2020; Rated Current: 1.17A; Inductance: 47uH; Operating Temperature: -40 to +125degC; Packaging: Tape and Reel; Size: 7850; Supplier 2 URL: https://www.digikey.com/en/products/detail/w%C3%BCrth-elektronik/784775147/5168895?s=N4IgTCBcDaIOwA4Asc4FYCMKQF0C%2BQA; Supplier 1 SN: 710-784775147; Supplier 1 URL: https://www.mouser.vn/ProductDetail/Wurth-Elektronik/784775147?qs=sBf%2Fb4nBSlcZGSZD%252BTIL6w%3D%3D; Supplier 1 URL: https://www.thegioiic.com/cuon-cam-dan-smd-cd75-7855-470-47uh-1-1a; Value: 47uH, 1.17A; Supplier 3 URL: N/A; LCSC Part #: N/A; Mount: SMD/SMT; Supplier 1: Mouser; Supplier 1 Part Number: N/A; Supplier 2: Digi-Key; Supplier 2 Part Number: 732-6862-2-ND; Supplier 3: thegioiic; Supplier 3 Part Number: N/A
footprint WE-PD2A_7850
pins: 1, 2

## 784775168
designator L?, comment 68uH, 0.99A
WE-PD2A SMT Power Inductor, size 7850, 68uH, 0.99A; Manufacturer Part Number: 784775168; Manufacturer: Wurth Elektronik; DC Resistance max.: 0.28Ohm; Saturation Current: 1.05A; Self Resonant Frequency: 8MHz; DC Resistance typ.: 0.218Ohm; Rated Voltage: 80VDC; ComponentLink1Description: Datasheet; ComponentLink1URL: https://www.we-online.com/catalog/datasheet/784775168.pdf; Published Date: May 2020; Rated Current: 0.99A; Inductance: 68uH; Operating Temperature: -40 to +125degC; Packaging: Tape and Reel; Size: 7850; Supplier 2 URL: https://www.digikey.com/en/products/detail/w%C3%BCrth-elektronik/784775168/5168896?s=N4IgTCBcDaIOwA4Asc4FYCMA2BIC6AvkA; Supplier 1 SN: 710-784775168; Supplier 1 URL: https://www.mouser.vn/ProductDetail/Wurth-Elektronik/784775168?qs=sBf%2Fb4nBSlc6P06%252BtuCpAA%3D%3D; Supplier 1 URL: N/A; Value: 68uH, 0.99A; Supplier 3 URL: N/A; LCSC Part #: N/A; Mount: SMD/SMT; Supplier 1: Mouser; Supplier 1 Part Number: N/A; Supplier 2: Digi-Key; Supplier 2 Part Number: 732-6863-2-ND; Supplier 3: thegioiic; Supplier 3 Part Number: N/A
footprint WE-PD2A_7850
pins: 1, 2

## 784775182
designator L?, comment 82uH, 0.9A
WE-PD2A SMT Power Inductor, size 7850, 82uH, 0.9A; Manufacturer Part Number: 784775182; Manufacturer: Wurth Elektronik; DC Resistance max.: 0.37Ohm; Saturation Current: 0.95A; Self Resonant Frequency: 7MHz; DC Resistance typ.: 0.248Ohm; Rated Voltage: 80VDC; ComponentLink1Description: Datasheet; ComponentLink1URL: https://www.we-online.com/catalog/datasheet/784775182.pdf; Published Date: May 2020; Rated Current: 0.9A; Inductance: 82uH; Operating Temperature: -40 to +125degC; Packaging: Tape and Reel; Size: 7850; Supplier 2 URL: https://www.digikey.com/en/products/detail/w%C3%BCrth-elektronik/784775182/5168897?s=N4IgTCBcDaIOwA4Asc4FYCMCIF0C%2BQA; Supplier 1 SN: 710-784775182; Supplier 1 URL: https://www.mouser.vn/ProductDetail/Wurth-Elektronik/784775182?qs=sBf%2Fb4nBSlffzb9B1%2FjFLw%3D%3D; Supplier 1 URL: N/A; Value: 82uH, 0.9A; Supplier 3 URL: N/A; LCSC Part #: N/A; Mount: SMD/SMT; Supplier 1: Mouser; Supplier 1 Part Number: N/A; Supplier 2: Digi-Key; Supplier 2 Part Number: 732-6864-2-ND; Supplier 3: thegioiic; Supplier 3 Part Number: N/A
footprint WE-PD2A_7850
pins: 1, 2

## 784775212
designator L?, comment 120uH, 0.67A
WE-PD2A SMT Power Inductor, size 7850, 120uH, 0.67A; Manufacturer Part Number: 784775212; Manufacturer: Wurth Elektronik; DC Resistance max.: 0.47Ohm; Saturation Current: 0.81A; Self Resonant Frequency: 6MHz; DC Resistance typ.: 0.34Ohm; Rated Voltage: 80VDC; ComponentLink1Description: Datasheet; ComponentLink1URL: https://www.we-online.com/catalog/datasheet/784775212.pdf; Published Date: May 2020; Rated Current: 0.67A; Inductance: 120uH; Operating Temperature: -40 to +125degC; Packaging: Tape and Reel; Size: 7850; Supplier 2 URL: https://www.digikey.com/en/products/detail/w%C3%BCrth-elektronik/784775212/5168898?s=N4IgTCBcDaIOwA4Asc4FYwEYIF0C%2BQA; Supplier 1 SN: 710-784775212; Supplier 1 URL: https://www.mouser.vn/ProductDetail/Wurth-Elektronik/784775212?qs=sBf%2Fb4nBSleOeqHA39e6vQ%3D%3D; Supplier 1 URL: N/A; Value: 120uH, 0.67A; Supplier 3 URL: N/A; LCSC Part #: N/A; Mount: SMD/SMT; Supplier 1: Mouser; Supplier 1 Part Number: N/A; Supplier 2: Digi-Key; Supplier 2 Part Number: 732-6866-2-ND; Supplier 3: thegioiic; Supplier 3 Part Number: N/A
footprint WE-PD2A_7850
pins: 1, 2

## 784775215
designator L?, comment 150uH, 0.6A
WE-PD2A SMT Power Inductor, size 7850, 150uH, 0.6A; Manufacturer Part Number: 784775215; Manufacturer: Wurth Elektronik; DC Resistance max.: 0.64Ohm; Saturation Current: 0.71A; Self Resonant Frequency: 6MHz; DC Resistance typ.: 0.467Ohm; Rated Voltage: 80VDC; ComponentLink1Description: Datasheet; ComponentLink1URL: https://www.we-online.com/catalog/datasheet/784775215.pdf; Published Date: May 2020; Rated Current: 0.6A; Inductance: 150uH; Operating Temperature: -40 to +125degC; Packaging: Tape and Reel; Size: 7850; Supplier 2 URL: https://www.digikey.com/en/products/detail/w%C3%BCrth-elektronik/784775215/5168899?s=N4IgTCBcDaIOwA4Asc4FYwEY0gLoF8g; Supplier 1 SN: 710-784775215; Supplier 1 URL: https://www.mouser.vn/ProductDetail/Wurth-Elektronik/784775215?qs=sBf%2Fb4nBSlcuYaaomBKw3w%3D%3D; Supplier 1 URL: N/A; Value: 150uH, 0.6A; Supplier 3 URL: N/A; LCSC Part #: N/A; Mount: SMD/SMT; Supplier 1: Mouser; Supplier 1 Part Number: N/A; Supplier 2: Digi-Key; Supplier 2 Part Number: 732-6867-2-ND; Supplier 3: thegioiic; Supplier 3 Part Number: N/A
footprint WE-PD2A_7850
pins: 1, 2

## 784775218
designator L?, comment 180uH, 0.55A
WE-PD2A SMT Power Inductor, size 7850, 180uH, 0.55A; Manufacturer Part Number: 784775218; Manufacturer: Wurth Elektronik; DC Resistance max.: 0.71Ohm; Saturation Current: 0.57A; Self Resonant Frequency: 5MHz; DC Resistance typ.: 0.574Ohm; Rated Voltage: 80VDC; ComponentLink1Description: Datasheet; ComponentLink1URL: https://www.we-online.com/catalog/datasheet/784775218.pdf; Published Date: May 2020; Rated Current: 0.55A; Inductance: 180uH; Operating Temperature: -40 to +125degC; Packaging: Tape and Reel; Size: 7850; Supplier 2 URL: https://www.digikey.com/en/products/detail/w%C3%BCrth-elektronik/784775218/5168900?s=N4IgTCBcDaIOwA4Asc4FYwEYEgLoF8g; Supplier 1 SN: 710-784775218; Supplier 1 URL: https://www.mouser.vn/ProductDetail/Wurth-Elektronik/784775218?qs=sBf%2Fb4nBSldi5VOBQ9TGkw%3D%3D; Supplier 1 URL: N/A; Value: 180uH, 0.55A; Supplier 3 URL: N/A; LCSC Part #: N/A; Mount: SMD/SMT; Supplier 1: Mouser; Supplier 1 Part Number: N/A; Supplier 2: Digi-Key; Supplier 2 Part Number: 732-6868-2-ND; Supplier 3: thegioiic; Supplier 3 Part Number: N/A
footprint WE-PD2A_7850
pins: 1, 2

## 784775222
designator L?, comment 220uH, 0.51A
WE-PD2A SMT Power Inductor, size 7850, 220uH, 0.51A; Manufacturer Part Number: 784775222; Manufacturer: Wurth Elektronik; DC Resistance max.: 0.96Ohm; Saturation Current: 0.56A; Self Resonant Frequency: 5MHz; DC Resistance typ.: 0.614Ohm; Rated Voltage: 80VDC; ComponentLink1Description: Datasheet; ComponentLink1URL: https://www.we-online.com/catalog/datasheet/784775222.pdf; Published Date: May 2020; Rated Current: 0.51A; Inductance: 220uH; Operating Temperature: -40 to +125degC; Packaging: Tape and Reel; Size: 7850; Supplier 2 URL: https://www.digikey.com/en/products/detail/w%C3%BCrth-elektronik/784775222/5168901?s=N4IgTCBcDaIOwA4Asc4FYyZAXQL5A; Supplier 1 SN: 710-784775222; Supplier 1 URL: https://www.mouser.vn/ProductDetail/Wurth-Elektronik/784775222?qs=sBf%2Fb4nBSldPd7mA4Qj5Cw%3D%3D; Supplier 1 URL: N/A; Value: 220uH, 0.51A; Supplier 3 URL: N/A; LCSC Part #: N/A; Mount: SMD/SMT; Supplier 1: Mouser; Supplier 1 Part Number: N/A; Supplier 2: Digi-Key; Supplier 2 Part Number: 732-6869-2-ND; Supplier 3: thegioiic; Supplier 3 Part Number: N/A
footprint WE-PD2A_7850
pins: 1, 2

## 784775227
designator L?, comment 270uH, 0.47A
WE-PD2A SMT Power Inductor, size 7850, 270uH, 0.47A; Manufacturer Part Number: 784775227; Manufacturer: Wurth Elektronik; DC Resistance max.: 1.11Ohm; Saturation Current: 0.51A; Self Resonant Frequency: 4MHz; DC Resistance typ.: 0.699Ohm; Rated Voltage: 80VDC; ComponentLink1Description: Datasheet; ComponentLink1URL: https://www.we-online.com/catalog/datasheet/784775227.pdf; Published Date: May 2020; Rated Current: 0.47A; Inductance: 270uH; Operating Temperature: -40 to +125degC; Packaging: Tape and Reel; Size: 7850; Supplier 2 URL: https://www.digikey.com/en/products/detail/w%C3%BCrth-elektronik/784775227/5168902?s=N4IgTCBcDaIOwA4Asc4FYxjiAugXyA; Supplier 1 SN: 710-784775227; Supplier 1 URL: https://www.mouser.vn/ProductDetail/Wurth-Elektronik/784775227?qs=sBf%2Fb4nBSle2cmx9sjCMtw%3D%3D; Supplier 1 URL: N/A; Value: 270uH, 0.47A; Supplier 3 URL: N/A; LCSC Part #: N/A; Mount: SMD/SMT; Supplier 1: Mouser; Supplier 1 Part Number: N/A; Supplier 2: Digi-Key; Supplier 2 Part Number: 732-6870-2-ND; Supplier 3: thegioiic; Supplier 3 Part Number: N/A
footprint WE-PD2A_7850
pins: 1, 2

## 784775233
designator L?, comment 330uH, 0.43A
WE-PD2A SMT Power Inductor, size 7850, 330uH, 0.43A; Manufacturer Part Number: 784775233; Manufacturer: Wurth Elektronik; DC Resistance max.: 1.26Ohm; Saturation Current: 0.48A; Self Resonant Frequency: 4MHz; DC Resistance typ.: 0.98Ohm; Rated Voltage: 80VDC; ComponentLink1Description: Datasheet; ComponentLink1URL: https://www.we-online.com/catalog/datasheet/784775233.pdf; Published Date: May 2020; Rated Current: 0.43A; Inductance: 330uH; Operating Temperature: -40 to +125degC; Packaging: Tape and Reel; Size: 7850; Supplier 2 URL: https://www.digikey.com/en/products/detail/w%C3%BCrth-elektronik/784775233/5168903?s=N4IgTCBcDaIOwA4Asc4FYwGZMgLoF8g; Supplier 1 SN: 710-784775233; Supplier 1 URL: https://www.mouser.vn/ProductDetail/Wurth-Elektronik/784775233?qs=sBf%2Fb4nBSlef9U7Mv5VhjA%3D%3D; Supplier 1 URL: N/A; Value: 330uH, 0.43A; Supplier 3 URL: N/A; LCSC Part #: N/A; Mount: SMD/SMT; Supplier 1: Mouser; Supplier 1 Part Number: N/A; Supplier 2: Digi-Key; Supplier 2 Part Number: 732-6871-2-ND; Supplier 3: thegioiic; Supplier 3 Part Number: N/A
footprint WE-PD2A_7850
pins: 1, 2

## 784775239
designator L?, comment 390uH, 0.38A
WE-PD2A SMT Power Inductor, size 7850, 390uH, 0.38A; Manufacturer Part Number: 784775239; Manufacturer: Wurth Elektronik; DC Resistance max.: 1.77Ohm; Saturation Current: 0.43A; Self Resonant Frequency: 3MHz; DC Resistance typ.: 1.151Ohm; Rated Voltage: 80VDC; ComponentLink1Description: Datasheet; ComponentLink1URL: https://www.we-online.com/catalog/datasheet/784775239.pdf; Published Date: May 2020; Rated Current: 0.38A; Inductance: 390uH; Operating Temperature: -40 to +125degC; Packaging: Tape and Reel; Size: 7850; Supplier 2 URL: https://www.digikey.com/en/products/detail/w%C3%BCrth-elektronik/784775239/5168904?s=N4IgTCBcDaIOwA4Asc4FYwGYCcIC6AvkA; Supplier 1 SN: 710-784775239; Supplier 1 URL: https://www.mouser.vn/ProductDetail/Wurth-Elektronik/784775239?qs=sBf%2Fb4nBSldCkugOVpzXgw%3D%3D; Supplier 1 URL: N/A; Value: 390uH, 0.38A; Supplier 3 URL: N/A; LCSC Part #: N/A; Mount: SMD/SMT; Supplier 1: Mouser; Supplier 1 Part Number: N/A; Supplier 2: Digi-Key; Supplier 2 Part Number: 732-784775239TR-ND; Supplier 3: thegioiic; Supplier 3 Part Number: N/A
footprint WE-PD2A_7850
pins: 1, 2

## 784775247
designator L?, comment 470uH, 0.36A
WE-PD2A SMT Power Inductor, size 7850, 470uH, 0.36A; Manufacturer Part Number: 784775247; Manufacturer: Wurth Elektronik; DC Resistance max.: 1.96Ohm; Saturation Current: 0.38A; Self Resonant Frequency: 3MHz; DC Resistance typ.: 1.37Ohm; Rated Voltage: 80VDC; ComponentLink1Description: Datasheet; ComponentLink1URL: https://www.we-online.com/catalog/datasheet/784775247.pdf; Published Date: May 2020; Rated Current: 0.36A; Inductance: 470uH; Operating Temperature: -40 to +125degC; Packaging: Tape and Reel; Size: 7850; Supplier 2 URL: https://www.digikey.com/en/products/detail/w%C3%BCrth-elektronik/784775247/5168905?s=N4IgTCBcDaIOwA4Asc4FYwpAXQL5A; Supplier 1 SN: 710-784775247; Supplier 1 URL: https://www.mouser.vn/ProductDetail/Wurth-Elektronik/784775247?qs=sBf%2Fb4nBSlcdwcwhvvRkyA%3D%3D; Supplier 1 URL: N/A; Value: 470uH, 0.36A; Supplier 3 URL: N/A; LCSC Part #: N/A; Mount: SMD/SMT; Supplier 1: Mouser; Supplier 1 Part Number: N/A; Supplier 2: Digi-Key; Supplier 2 Part Number: 732-6873-2-ND; Supplier 3: thegioiic; Supplier 3 Part Number: N/A
footprint WE-PD2A_7850
pins: 1, 2


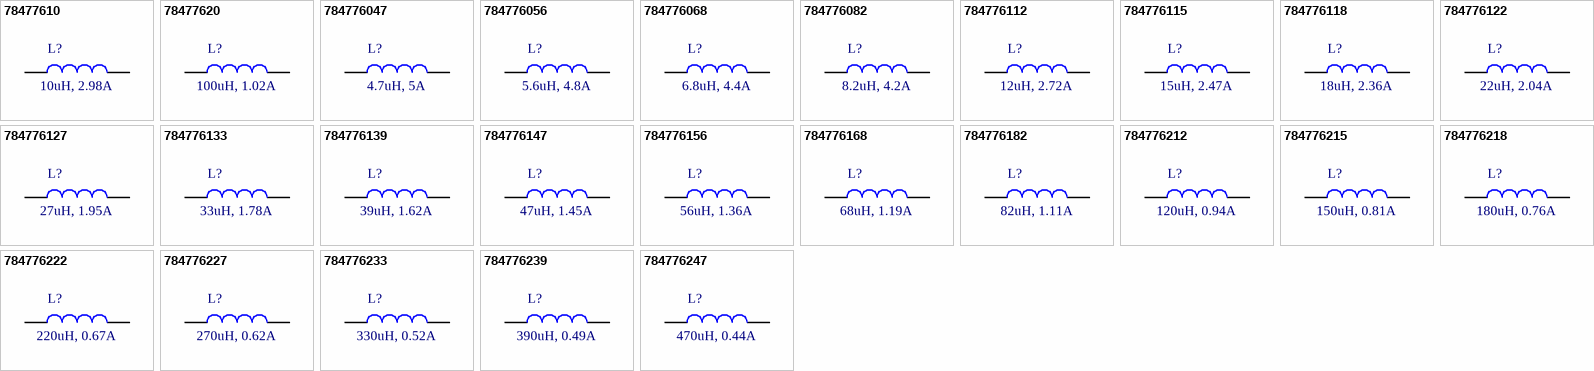
[diagram p4: symbols 78477610 to 784776247]

## 78477610
designator L?, comment 10uH, 2.98A
WE-PD2A SMT Power Inductor, size 1054, 10uH, 2.98A; Manufacturer Part Number: 78477610; Manufacturer: Wurth Elektronik; DC Resistance max.: 0.06Ohm; Saturation Current: 3.24A; Self Resonant Frequency: 27.52MHz; DC Resistance typ.: 0.028Ohm; Rated Voltage: 80VDC; ComponentLink1Description: Datasheet; ComponentLink1URL: https://www.we-online.com/catalog/datasheet/78477610.pdf; Published Date: May 2020; Rated Current: 2.98A; Inductance: 10uH; Operating Temperature: -40 to +125degC; Packaging: Tape and Reel; Size: 1054; Supplier 1 URL: https://www.mouser.vn/ProductDetail/Wurth-Elektronik/78477610?qs=sBf%2Fb4nBSlfmBIqyB8oiaA%3D%3D; Supplier 3 URL: N/A; Value: 10uH, 2.98A; Supplier 2 URL: https://www.digikey.com/en/products/detail/w%C3%BCrth-elektronik/78477610/5168783?s=N4IgjCBcoGwJxVAYygMwIYBsDOBTANCAPZQDaIALAAxwDMdIAuoQA4AuUIAymwE4CWAOwDmIAL6EwAJjgRoIFJAw4CxMiADsYMBQAcTVh0jc%2BQ0RJBSqujYgVoseQiUjkwVAAQBWgBIGQ7JwAqoL8bADyqACyuOjYAK68uOKEVrr68orKTmqulgB0cLoeAIL%2BgcYhYZExcYnJYo1AA; LCSC Part #: N/A; Mount: SMD/SMT; Supplier 1: Mouser; Supplier 1 Part Number: 710-78477610; Supplier 2: Digi-Key; Supplier 2 Part Number: 732-6881-2-ND; Supplier 3: thegioiic; Supplier 3 Part Number: N/A
footprint WE-PD2A_1054
pins: 1, 2

## 78477620
designator L?, comment 100uH, 1.02A
WE-PD2A SMT Power Inductor, size 1054, 100uH, 1.02A; Manufacturer Part Number: 78477620; Manufacturer: Wurth Elektronik; DC Resistance max.: 0.35Ohm; Saturation Current: 1.1A; Self Resonant Frequency: 6.69MHz; DC Resistance typ.: 0.2Ohm; Rated Voltage: 80VDC; ComponentLink1Description: Datasheet; ComponentLink1URL: https://www.we-online.com/catalog/datasheet/78477620.pdf; Published Date: May 2020; Rated Current: 1.02A; Inductance: 100uH; Operating Temperature: -40 to +125degC; Packaging: Tape and Reel; Size: 1054; Supplier 1 URL: https://www.mouser.vn/ProductDetail/Wurth-Elektronik/78477610?qs=sBf%2Fb4nBSlfmBIqyB8oiaA%3D%3D; Supplier 3 URL: https://www.thegioiic.com/cdrh104-cuon-cam-dan-smd-1038-101-100uh-1-66a; Value: 100uH, 1.02A; Supplier 2 URL: https://www.digikey.com/en/products/detail/w%C3%BCrth-elektronik/78477620/5168784?s=N4IgjCBcoGwJxVAYygMwIYBsDOBTANCAPZQDaIALAAxwDMdIAuoQA4AuUIAymwE4CWAOwDmIAL6EwAJjgRoIFJAw4CxMiADsYMBQAcTVh0jc%2BQ0RJBSqujYgVoseQiUjkwVKgAIArQAkDIOycAKqC-GwA8qgAsrjo2ACuvLjihFa6%2BvKKyk5qruAAdFRSngCCAUHGoeFRsfFJKWJNQA; LCSC Part #: N/A; Mount: SMD/SMT; Supplier 1: Mouser; Supplier 1 Part Number: 710-78477610; Supplier 2: Digi-Key; Supplier 2 Part Number: 732-6893-2-ND; Supplier 3: thegioiic; Supplier 3 Part Number: N/A
footprint WE-PD2A_1054
pins: 1, 2

## 784776047
designator L?, comment 4.7uH, 5A
WE-PD2A SMT Power Inductor, size 1054, 4.7uH, 5A; Manufacturer Part Number: 784776047; Manufacturer: Wurth Elektronik; DC Resistance max.: 0.014Ohm; Saturation Current: 6A; Self Resonant Frequency: 46.14MHz; DC Resistance typ.: 0.012Ohm; Rated Voltage: 80VDC; ComponentLink1Description: Datasheet; ComponentLink1URL: https://www.we-online.com/catalog/datasheet/784776047.pdf; Published Date: May 2020; Rated Current: 5A; Inductance: 4.7uH; Operating Temperature: -40 to +125degC; Packaging: Tape and Reel; Size: 1054; Supplier 1 URL: https://www.mouser.vn/ProductDetail/Wurth-Elektronik/78477610?qs=sBf%2Fb4nBSlfmBIqyB8oiaA%3D%3D; Supplier 3 URL: N/A; Value: 4.7uH, 5A; Supplier 2 URL: https://www.digikey.com/en/products/detail/w%C3%BCrth-elektronik/784776047/5168909?s=N4IgjCBcoGwJxVAYygMwIYBsDOBTANCAPZQDaIALAAxwDMdIAuoQA4AuUIAymwE4CWAOwDmIAL6EwAJjgRoIFJAw4CxMiADsYMBQAcTVh0jc%2BQ0RJBSqujYgVoseQiUjkKAOg0ACAK0AJAxB2TgBVQX42AHlUAFlcdGwAV15ccUIrXX15RWUnNVcQAFYvAEFA4OMwiOi4hOTUsUagA; LCSC Part #: N/A; Mount: SMD/SMT; Supplier 1: Mouser; Supplier 1 Part Number: 710-78477610; Supplier 2: Digi-Key; Supplier 2 Part Number: 732-6877-2-ND; Supplier 3: thegioiic; Supplier 3 Part Number: N/A
footprint WE-PD2A_1054
pins: 1, 2